# Altium schematic symbol library TSOP36XXX.SchLib: 1 symbol
Pins are listed as number, name and electrical type; pins without a type are passive.

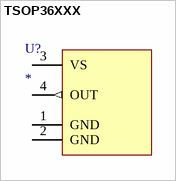
[diagram p0: symbol TSOP36XXX]

## TSOP36XXX
designator U?
Value: *
pins: 1 GND (power), 2 GND (power), 3 VS (power), 4 OUT (out)